# EAGLE library part MAX4173TESA+ (library NIPCB)
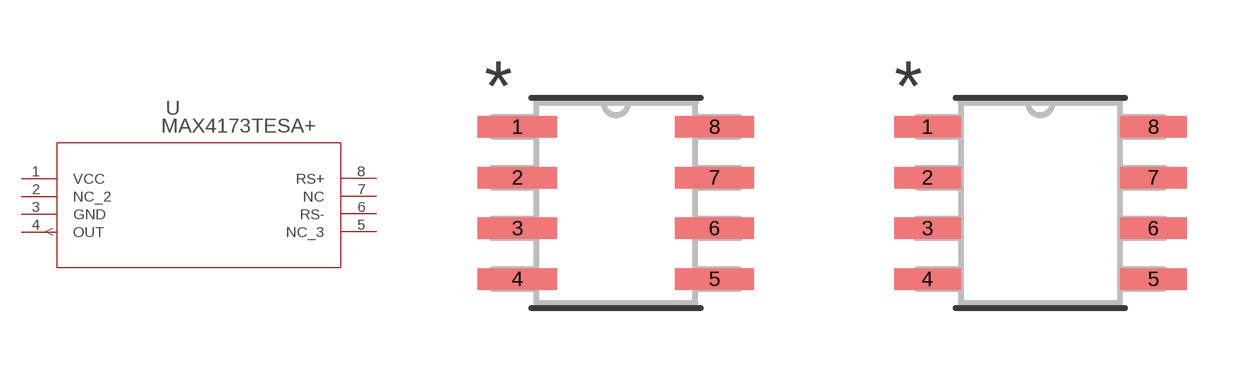
[diagram p8: symbol with the pads of 21-0041B_8; footprints 21-0041B_8, 21-0041B_8-M]

Designator prefix U

## MAX4173TESA+21-0041B_8 (COPYRIGHT: Copyright (C) 2024 Ultra Librarian. All rights reserved.; MANUFACTURER_PART_NUMBER: MAX4173TESA+; MFR_NAME: Analog Devices / Maxim Integrated)  [21-0041B_8]
1  VCC  pwr
2  NC_2  nc
3  GND  pwr
4  OUT  out
5  NC_3  nc
6  RS-  pas
7  NC  nc
8  RS+  pas

## MAX4173TESA+21-0041B_8-M (COPYRIGHT: Copyright (C) 2024 Ultra Librarian. All rights reserved.; MANUFACTURER_PART_NUMBER: MAX4173TESA+; MFR_NAME: Analog Devices / Maxim Integrated)  [21-0041B_8-M]
Pads as for 21-0041B_8

## MAX4173TESA+21-0041B_8-L (COPYRIGHT: Copyright (C) 2024 Ultra Librarian. All rights reserved.; MANUFACTURER_PART_NUMBER: MAX4173TESA+; MFR_NAME: Analog Devices / Maxim Integrated)  [21-0041B_8-L]
Pads as for 21-0041B_8

## Footprint 21-0041B_8 (pad centres in mm)
smd 1.981 x 0.533: 1 -2.464,1.905; 2 -2.464,0.635; 3 -2.464,-0.635; 4 -2.464,-1.905; 5 2.464,-1.905; 6 2.464,-0.635; 7 2.464,0.635; 8 2.464,1.905

## Footprint 21-0041B_8-M (pad centres in mm)
smd 1.664 x 0.533: 1 -2.826,1.905; 2 -2.826,0.635; 3 -2.826,-0.635; 4 -2.826,-1.905; 5 2.826,-1.905; 6 2.826,-0.635; 7 2.826,0.635; 8 2.826,1.905

## Footprint 21-0041B_8-L (pad centres in mm)
smd 1.257 x 0.483: 1 -2.623,1.905; 2 -2.623,0.635; 3 -2.623,-0.635; 4 -2.623,-1.905; 5 2.623,-1.905; 6 2.623,-0.635; 7 2.623,0.635; 8 2.623,1.905